# Altium schematic symbol library Converters.SchLib: 5 symbols
Pins are listed as number, name and electrical type; pins without a type are passive.

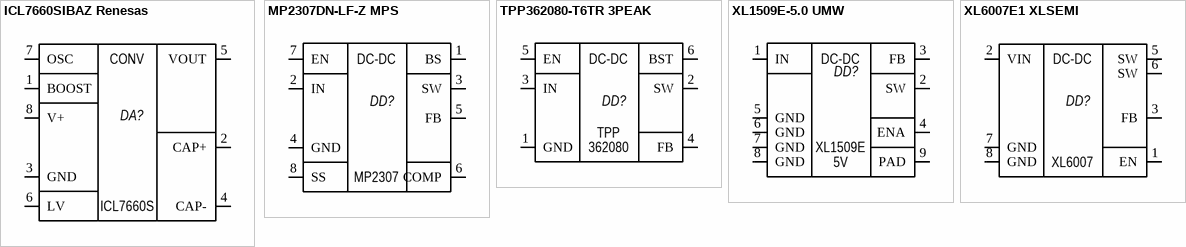
[diagram p0: symbols ICL7660SIBAZ Renesas to XL6007E1 XLSEMI]

## ICL7660SIBAZ Renesas
designator DA?  (value not drawn)
footprint SOIC-8/150mil
pins: 1 BOOST, 2 CAP+, 3 GND, 4 CAP-, 5 VOUT, 6 LV, 7 OSC, 8 V+
text: CONV; ICL7660S

## MP2307DN-LF-Z MPS
designator DD?  (value not drawn)
footprint SOIC-8EP/150mil
pins: 1 BS, 2 IN, 3 SW, 4 GND, 5 FB, 6 COMP, 7 EN, 8 SS
text: DC-DC; MP2307

## TPP362080-T6TR 3PEAK
designator DD?  (value not drawn)
footprint SOT23-6
pins: 1 GND, 2 SW, 3 IN, 4 FB, 5 EN, 6 BST
text: DC-DC; TPP; 362080

## XL1509E-5.0 UMW
designator DD?  (value not drawn)
footprint SOIC-8EP/150mil
pins: 1 IN, 2 SW, 3 FB, 4 ENA, 5 GND, 6 GND, 7 GND, 8 GND, 9 PAD
text: DC-DC; XL1509E; 5V

## XL6007E1 XLSEMI
designator DD?  (value not drawn)
footprint SOIC-8/150mil
pins: 1 EN, 2 VIN, 3 FB, 5 SW, 6 SW, 7 GND, 8 GND
text: DC-DC; XL6007